# EAGLE library part SN65HVD230DR (library LDC1614)
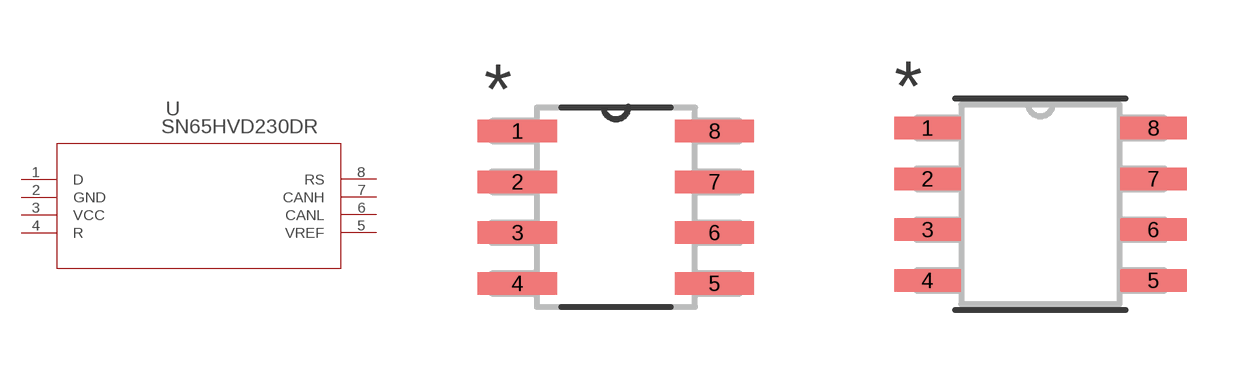
[diagram p1: symbol with the pads of D8; footprints D8, D8-M]

Designator prefix U

## SN65HVD230DR (COPYRIGHT: Copyright (C) 2022 Ultra Librarian. All rights reserved.; DIGI-KEY_PART_NUMBER_1: 296-11654-1-ND; DIGI-KEY_PART_NUMBER_2: 296-11654-2-ND; DIGI-KEY_PART_NUMBER_3: 296-11654-6-ND; DIGI-KEY_PART_NUMBER_4: 2156-SN65HVD230DR-ND; MANUFACTURER_PART_NUMBER: SN65HVD230DR; MFR_NAME: Texas Instruments)  [D8]
1  D  in
2  GND  pwr
3  VCC  pwr
4  R  in
5  VREF  pwr
6  CANL  out
7  CANH  out
8  RS  in

## SN65HVD230DRD8-M (COPYRIGHT: Copyright (C) 2022 Ultra Librarian. All rights reserved.; DIGI-KEY_PART_NUMBER_1: 296-11654-1-ND; DIGI-KEY_PART_NUMBER_2: 296-11654-2-ND; DIGI-KEY_PART_NUMBER_3: 296-11654-6-ND; DIGI-KEY_PART_NUMBER_4: 2156-SN65HVD230DR-ND; MANUFACTURER_PART_NUMBER: SN65HVD230DR; MFR_NAME: Texas Instruments)  [D8-M]
Pads as for D8

## SN65HVD230DRD8-L (COPYRIGHT: Copyright (C) 2022 Ultra Librarian. All rights reserved.; DIGI-KEY_PART_NUMBER_1: 296-11654-1-ND; DIGI-KEY_PART_NUMBER_2: 296-11654-2-ND; DIGI-KEY_PART_NUMBER_3: 296-11654-6-ND; DIGI-KEY_PART_NUMBER_4: 2156-SN65HVD230DR-ND; MANUFACTURER_PART_NUMBER: SN65HVD230DR; MFR_NAME: Texas Instruments)  [D8-L]
Pads as for D8

## Footprint D8 (pad centres in mm)
smd 1.981 x 0.559: 1 -2.464,1.905; 2 -2.464,0.635; 3 -2.464,-0.635; 4 -2.464,-1.905; 5 2.464,-1.905; 6 2.464,-0.635; 7 2.464,0.635; 8 2.464,1.905

## Footprint D8-M (pad centres in mm)
smd 1.664 x 0.559: 1 -2.826,1.905; 2 -2.826,0.635; 3 -2.826,-0.635; 4 -2.826,-1.905; 5 2.826,-1.905; 6 2.826,-0.635; 7 2.826,0.635; 8 2.826,1.905

## Footprint D8-L (pad centres in mm)
smd 1.257 x 0.508: 1 -2.623,1.905; 2 -2.623,0.635; 3 -2.623,-0.635; 4 -2.623,-1.905; 5 2.623,-1.905; 6 2.623,-0.635; 7 2.623,0.635; 8 2.623,1.905